# Altium footprint library LXDbig1.PcbLib: 17 footprints (part 2 of 2)
Each footprint in its own frame and in the unit in brackets; x right, y up, seen from the top. Pads: shape width x height; smd on the part's side, far side on the other; paste and mask are expansions set on the pad; w line width, h text height; cw(c..) or ccw(c..) is an arc to the next point about the centre after c.
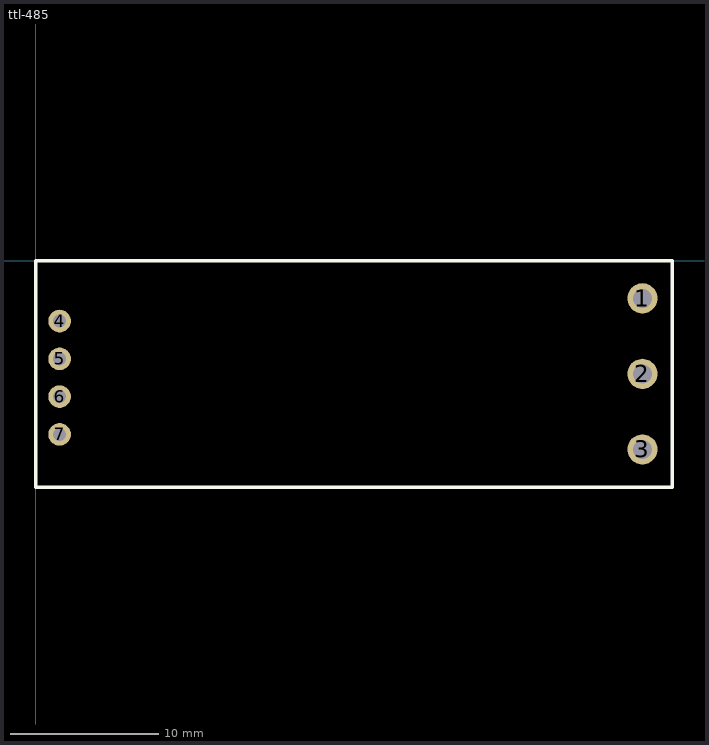
[diagram p1: the footprint, top view; thin cyan lines are the x and y axes]

## ttl-485 [mil]
height 181.1
pads (7):
  round 80 hole 50: 1(1606.3,-99.21) 2(1606.3,-299.21) 3(1606.3,-499.21)
  round 60 hole 35: 4(62.99,-159.45) 5(62.99,-259.45) 6(62.99,-359.45) 7(62.99,-459.45)
Top Overlay:
  lines w10: 0,-599.21 1685.04,-599.21 1685.04,0 0,0 0,-599.21